# Altium integrated library A8498SLJ-T.IntLib: 1 symbol
Pins are listed as number, name and electrical type; pins without a type are passive.

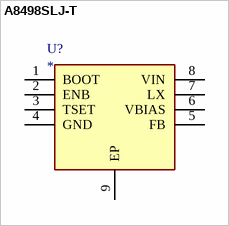
[diagram p0: symbol A8498SLJ-T]

## A8498SLJ-T
designator U?
datasheet: https://www.farnell.com/datasheets/2044637.pdf; ComponentLink1Description: farnell; ComponentLink1URL: https://es.farnell.com/allegro-microsystems/a8498slj-t/reg-tensi-n-reductor-3a-50v-smd/dp/1329621
footprint SOIC127P600X170-9N
pins: 1 BOOT, 2 ENB, 3 TSET, 4 GND, 5 FB, 6 VBIAS, 7 LX, 8 VIN, 9 EP